# EAGLE library part LC709203 (library NewPart)
1-cell ON semiconductor gas gauge
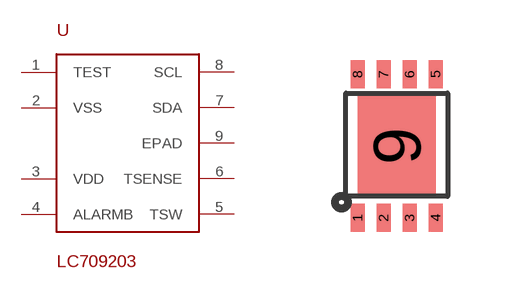
[diagram p1: symbol with the pads of WDFN8; footprint WDFN8]

Designator prefix U

## LC709203  [WDFN8]
1  TEST
2  VSS
3  VDD
4  ALARMB
5  TSW
6  TSENSE
7  SDA
8  SCL
9  EPAD

## Footprint WDFN8 (pad centres in mm)
smd 0.35 x 0.7: 1 -0.975,-2.095; 2 -0.325,-2.095; 3 0.325,-2.095; 4 0.975,-2.095; 5 0.975,1.495; 6 0.325,1.495; 7 -0.325,1.495; 8 -0.975,1.495
smd 1.96 x 2.56: 9 0,-0.3